# Altium schematic symbol library XIAO-RP2040.SchLib: 1 symbol
Pins are listed as number, name and electrical type; pins without a type are passive.

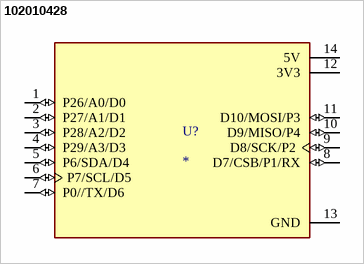
[diagram p0: symbol 102010428]

## 102010428
designator U?
RP2040 XIAO RP2040 series ARMÂ® CortexÂ®-M0+ MCU 32-Bit Embedded Evaluation Board; MF: Seeed Technology Co., Ltd; MP: 102010428; SnapEDA_Link: https://www.snapeda.com/parts/102010428/Seeed+Technology+Co.%252C+Ltd/view-part/?ref=snap; Package: None; Value: *; Check_prices: https://www.snapeda.com/parts/102010428/Seeed+Technology+Co.%252C+Ltd/view-part/?ref=eda
footprint MODULE_102010428
pins: 1 P26/A0/D0 (io), 2 P27/A1/D1 (io), 3 P28/A2/D2 (io), 4 P29/A3/D3 (io), 5 P6/SDA/D4 (io), 6 P7/SCL/D5 (io), 7 P0//TX/D6 (io), 8 D7/CSB/P1/RX (io), 9 D8/SCK/P2 (io), 10 D9/MISO/P4 (io), 11 D10/MOSI/P3 (io), 12 3V3 (power), 13 GND (power), 14 5V (power)